# Altium footprint library ZL201-17G.PcbLib: 1 footprints
Each footprint in its own frame and in the unit in brackets; x right, y up, seen from the top. Pads: shape width x height; smd on the part's side, far side on the other; paste and mask are expansions set on the pad; w line width, h text height; cw(c..) or ccw(c..) is an arc to the next point about the centre after c.
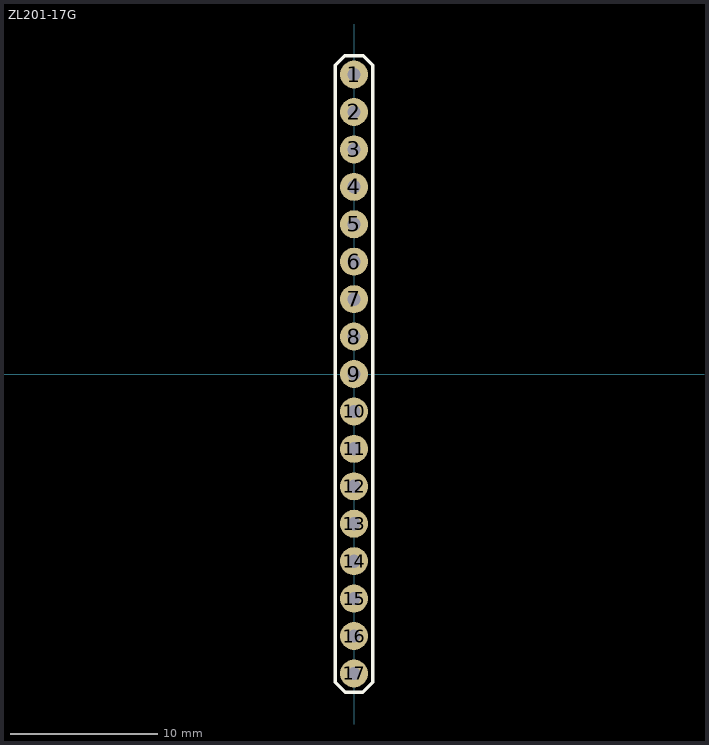
[diagram p0: the footprint, top view; thin cyan lines are the x and y axes]

## ZL201-17G [mm]
pads (17):
  round 1.9 hole 0.9: 1(0,20.32) 2(0,17.78) 3(0,15.24) 4(0,12.7) 5(0,10.16) 6(0,7.62) 7(0,5.08) 8(0,2.54) 9(0,0) 10(0,-2.54) 11(0,-5.08) 12(0,-7.62) 13(0,-10.16) 14(0,-12.7) 15(0,-15.24) 16(0,-17.78) 17(0,-20.32)
Top Overlay:
  lines w0.254: -1.27,-20.91 -1.27,20.95 -0.63,21.59 0.63,21.59 1.27,20.95 1.27,-20.91 0.59,-21.59 0,-21.59 -0.59,-21.59 -1.27,-20.91
3D body: height 2.5, standoff -8.7, extent -1.248,-21.5 1.248,21.68